# EAGLE library part FDS6990AS (library m-pad-2.1)
Fairchild's FDS6990AS Dual N-Channel PowerTrench SyncFET General Description: The FDS6990AS is designed to replace a dual SO-8 MOSFET and two Schottky diodes in synchronous DC:DC power supplies. This 30V MOSFET is designed to maximize power conversion efficiency, providing a low RDS(ON) and low gate charge. Each MOSFET includes integrated Schottky diodes using Fairchild?s monolithic SyncFET technology. The performance of the FDS6990AS as the low-side switch in a synchronous rectifier is similar to the performance of the FDS6990A in parallel with a Schottky diode. Features: 7.5 A, 30 V. RDS(ON) = 22 mOhm @ VGS = 10 V RDS(ON) = 28 mOhm @ VGS = 4.5 V Includes SyncFET Schottky diode Low gate charge (10nC typical) High performance trench technology for extremely low RDS(ON) High power and current handling capability Application: DC/DC converter Motor drives Please send any comments to: messi@users.sourceforge.net
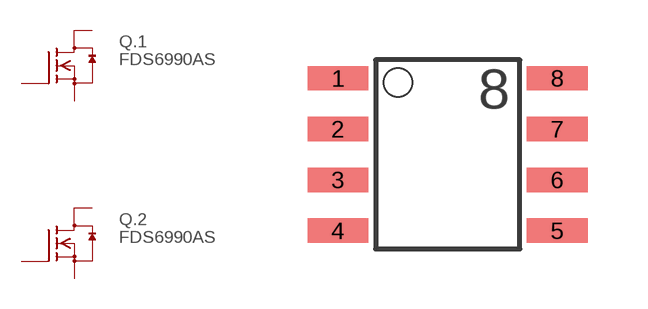
[diagram p143: symbol with the pads of SO-8; footprint SO-8]

Designator prefix Q; gates .1=IGFET-4-N-CH .2=IGFET-4-N-CH

## FDS6990AS  [SO-8]
1  .2:S  pas
2  .2:G  pas
3  .1:S  pas
4  .1:G  pas
5  .1:D  pas
6  .1:D  pas
7  .2:D  pas
8  .2:D  pas

## Footprint SO-8 (pad centres in mm)
small outline
smd 1.524 x 0.61: 1 -2.743,1.27; 2 -2.743,0; 3 -2.743,-1.27; 4 -2.743,-2.54; 5 2.743,-2.54; 6 2.743,-1.27; 7 2.743,0; 8 2.743,1.27